# Altium schematic symbol library D16_L25mm_P7.5mm_CAP_THT.SchLib: 1 symbol
Pins are listed as number, name and electrical type; pins without a type are passive.

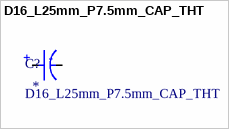
[diagram p0: symbol D16_L25mm_P7.5mm_CAP_THT]

## D16_L25mm_P7.5mm_CAP_THT
designator C?
LCSC: *
footprint D16_L25mm_P7.5mm_CAP_THT
pins: 1 +, 2 -